# EAGLE library part CON-JTAG (library s3-pilot2-lbr)
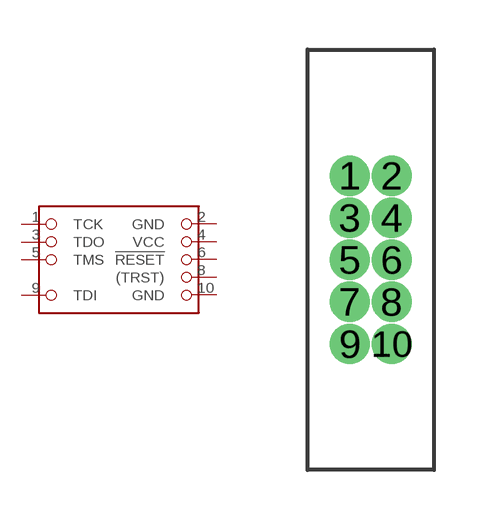
[diagram p3: symbol with the pads of 2X5/05; footprint 2X5/05]

Designator prefix -

## CON-JTAG  [2X5/05]
1  TCK
2  GND  pwr
3  TDO
4  VCC  pwr
5  TMS
6  !RESET
8  (TRST)
9  TDI
10  GND  pwr

## Footprint 2X5/05 (pad centres in mm)
drill 0.711: 1 -0.635,3.175; 2 0.635,3.175; 3 -0.635,1.905; 4 0.635,1.905; 5 -0.635,0.635; 6 0.635,0.635; 7 -0.635,-0.635; 8 0.635,-0.635
drill 0.7: 9 -0.635,-1.905; 10 0.635,-1.905